# EAGLE library part 22-?-07 (library apex)
CONNECTOR wire to board 2.54 mm (.1 inch) pitch header
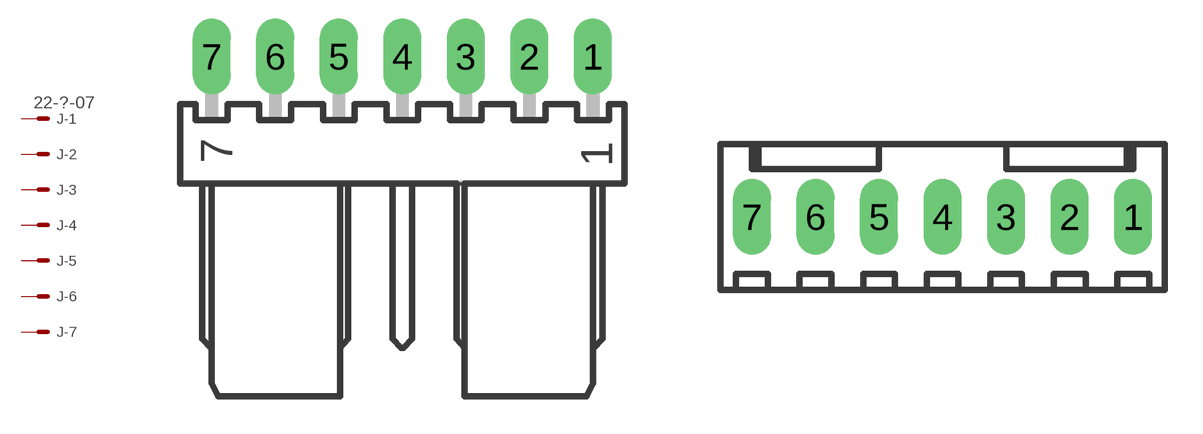
[diagram p1: symbol with the pads of 7395-07; footprints 7395-07, 6410-07]

Designator prefix J; gates -1=MV -2=M -3=M -4=M -5=M -6=M -7=M

## 22-05-7078-07 (OC_FARNELL: unknown; OC_NEWARK: unknown)  [7395-07]
1  -1:S  pas
2  -2:S  pas
3  -3:S  pas
4  -4:S  pas
5  -5:S  pas
6  -6:S  pas
7  -7:S  pas

## 22-27-2071-07 (OC_FARNELL: unknown; OC_NEWARK: unknown)  [6410-07]
Pads as for 7395-07

## Footprint 7395-07 (pad centres in mm)
MOLEX 2.54mm KK RA CONNECTOR Fixed Orientation
drill 1.016 long: 1 7.62,0; 2 5.08,0; 3 2.54,0; 4 0,0; 5 -2.54,0; 6 -5.08,0; 7 -7.62,0

## Footprint 6410-07 (pad centres in mm)
MOLEX 2.54mm KK CONNECTOR
drill 1.016 long: 1 7.62,0; 2 5.08,0; 3 2.54,0; 4 0,0; 5 -2.54,0; 6 -5.08,0; 7 -7.62,0